# EAGLE library part HEPH_CUSTOM_COMP_MCP3246 (library heph_custom_comp)
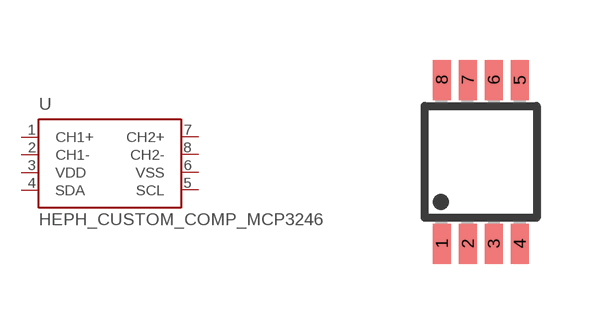
[diagram p2: symbol with the pads of HEPH_CUSTOM_COMP_MSOP8; footprint HEPH_CUSTOM_COMP_MSOP8]

Designator prefix -

## HEPH_CUSTOM_COMP_MCP3246  [HEPH_CUSTOM_COMP_MSOP8]
1  CH1+  in
2  CH1-  in
3  VDD  pwr
4  SDA
5  SCL
6  VSS  pwr
7  CH2+  in
8  CH2-  in

## Footprint HEPH_CUSTOM_COMP_MSOP8 (pad centres in mm)
smd 0.45 x 1: 1 -0.805,-2.51; 2 -0.155,-2.51; 3 0.495,-2.51; 4 1.145,-2.51; 5 1.145,1.59; 6 0.495,1.59; 7 -0.155,1.59; 8 -0.805,1.59